# Altium footprint library QUTMS_PCIConnectorLibrary.PcbLib: 1 footprints
Each footprint in its own frame and in the unit in brackets; x right, y up, seen from the top. Pads: shape width x height; smd on the part's side, far side on the other; paste and mask are expansions set on the pad; w line width, h text height; cw(c..) or ccw(c..) is an arc to the next point about the centre after c.
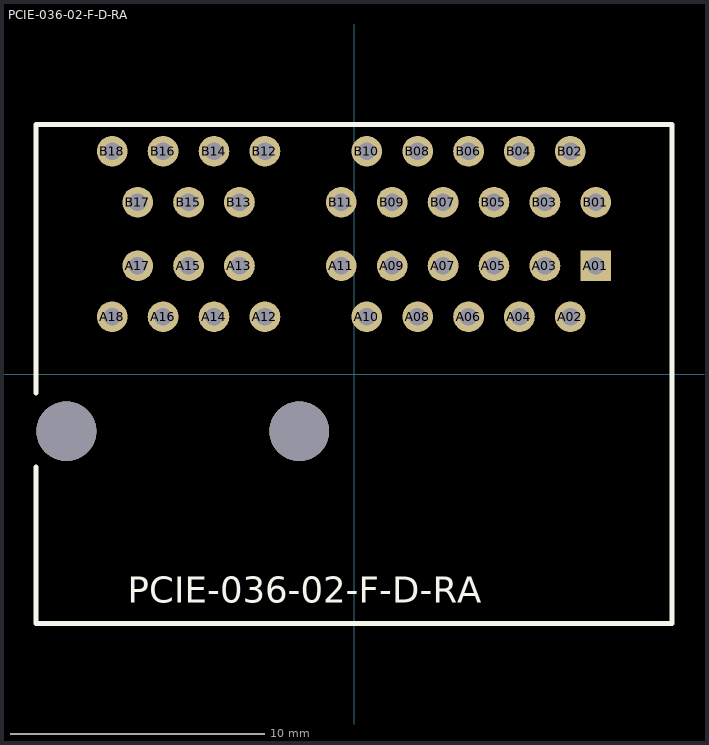
[diagram p0: the footprint, top view; thin cyan lines are the x and y axes]

## PCIE-036-02-F-D-RA [mm]
pads (38):
  rect 1.208x1.208 hole 0.7: A01(9.5,4.25)
  round 1.208 hole 0.7: A02(8.5,2.25) A03(7.5,4.25) A04(6.5,2.25) A05(5.5,4.25) A06(4.5,2.25) A07(3.5,4.25) A08(2.5,2.25) A09(1.5,4.25) A10(0.5,2.25) A11(-0.5,4.25) A12(-3.5,2.25) A13(-4.5,4.25) A14(-5.5,2.25) A15(-6.5,4.25) A16(-7.5,2.25) A17(-8.5,4.25) A18(-9.5,2.25) B01(9.5,6.75) B02(8.5,8.75) B03(7.5,6.75) B04(6.5,8.75) B05(5.5,6.75) B06(4.5,8.75) B07(3.5,6.75) B08(2.5,8.75) B09(1.5,6.75) B10(0.5,8.75) B11(-0.5,6.75) B12(-3.5,8.75) B13(-4.5,6.75) B14(-5.5,8.75) B15(-6.5,6.75) B16(-7.5,8.75) B17(-8.5,6.75) B18(-9.5,8.75)
  round 2.35 hole 2.35 unplated: ""(-11.3,-2.25) ""(-2.15,-2.25)
Top Overlay:
  lines w0.2: -12.5,-3.65 -12.5,-9.8 12.5,-9.8 12.5,9.8 -12.5,9.8 -12.5,-0.75
  text "PCIE-036-02-F-D-RA" at -8.887,-8.992 h1.02
3D body "PCIE-036-02-F-D-RA.stp": height 9.49, standoff -4.36, extent -12.49,-9.779 12.51,9.071